# Altium schematic symbol library jackdc.Schlib: 1 symbol
Pins are listed as number, name and electrical type; pins without a type are passive.

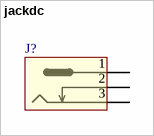
[diagram p0: symbol jackdc]

## jackdc
designator J?  (no BOM)
pins: 1, 2, 3